# EAGLE library part PIC18F4XK22 (library microchip-pic18f4xk22)
The library has been designed by Richard Magdycz <https://www.facebook.com/groups/eaglecadsoftUK>
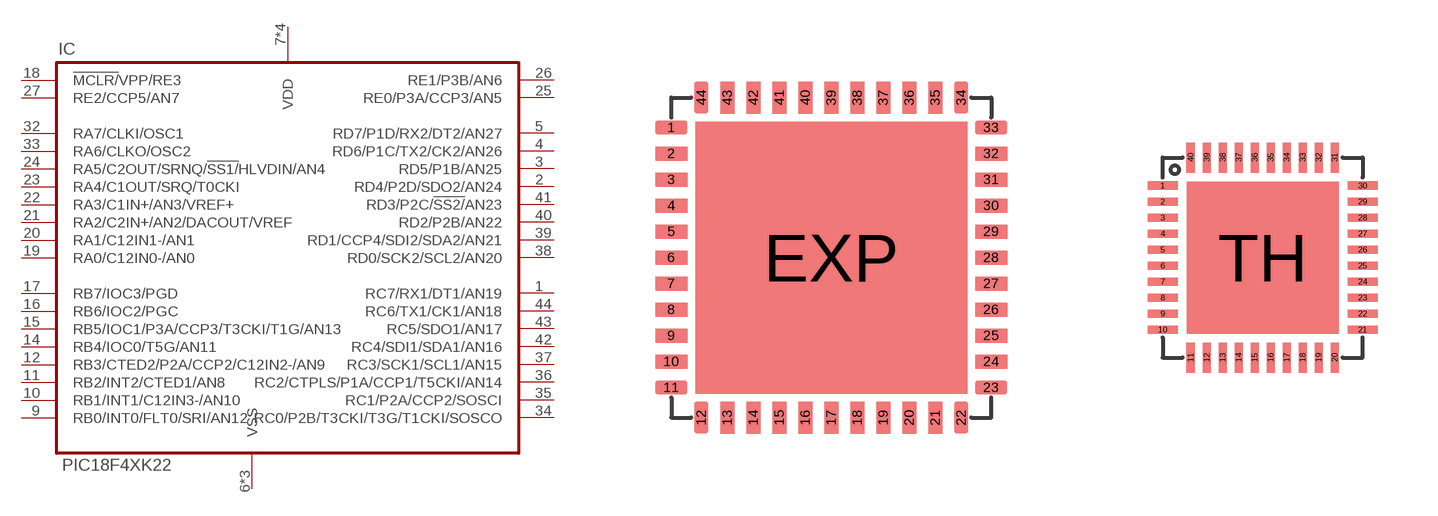
[diagram p0: symbol with the pads of QFN44ML8X8; footprints QFN44ML8X8, UQFN40ML5X5MM]

Designator prefix IC

## PIC18F4XK22ML  [QFN44ML8X8]
1  RC7/RX1/DT1/AN19
2  RD4/P2D/SDO2/AN24
3  RD5/P1B/AN25
4  RD6/P1C/TX2/CK2/AN26
5  RD7/P1D/RX2/DT2/AN27
6  VSS  pwr
7  VDD  pwr
8  VDD  pwr
9  RB0/INT0/FLT0/SRI/AN12
10  RB1/INT1/C12IN3-/AN10
11  RB2/INT2/CTED1/AN8
12  RB3/CTED2/P2A/CCP2/C12IN2-/AN9
14  RB4/IOC0/T5G/AN11
15  RB5/IOC1/P3A/CCP3/T3CKI/T1G/AN13
16  RB6/IOC2/PGC
17  RB7/IOC3/PGD
18  !MCLR/!VPP/RE3  in
19  RA0/C12IN0-/AN0
20  RA1/C12IN1-/AN1
21  RA2/C2IN+/AN2/DACOUT/VREF
22  RA3/C1IN+/AN3/VREF+
23  RA4/C1OUT/SRQ/T0CKI
24  RA5/C2OUT/SRNQ/!SS1/!HLVDIN/AN4
25  RE0/P3A/CCP3/AN5
26  RE1/P3B/AN6
27  RE2/CCP5/AN7
28  VDD  pwr
29  VDD  pwr
30  VSS  pwr
31  VSS  pwr
32  RA7/CLKI/OSC1
33  RA6/CLKO/OSC2
34  RC0/P2B/T3CKI/T3G/T1CKI/SOSCO
35  RC1/P2A/CCP2/SOSCI
36  RC2/CTPLS/P1A/CCP1/T5CKI/AN14
37  RC3/SCK1/SCL1/AN15
38  RD0/SCK2/SCL2/AN20
39  RD1/CCP4/SDI2/SDA2/AN21
40  RD2/P2B/AN22
41  RD3/P2C/!SS2/!AN23
42  RC4/SDI1/SDA1/AN16
43  RC5/SDO1/AN17
44  RC6/TX1/CK1/AN18

## PIC18F4XK22MV  [UQFN40ML5X5MM]
1  RC7/RX1/DT1/AN19
2  RD4/P2D/SDO2/AN24
3  RD5/P1B/AN25
4  RD6/P1C/TX2/CK2/AN26
5  RD7/P1D/RX2/DT2/AN27
6  VSS  pwr
7  VDD  pwr
8  RB0/INT0/FLT0/SRI/AN12
9  RB1/INT1/C12IN3-/AN10
10  RB2/INT2/CTED1/AN8
11  RB3/CTED2/P2A/CCP2/C12IN2-/AN9
12  RB4/IOC0/T5G/AN11
13  RB5/IOC1/P3A/CCP3/T3CKI/T1G/AN13
14  RB6/IOC2/PGC
15  RB7/IOC3/PGD
16  !MCLR/!VPP/RE3  in
17  RA0/C12IN0-/AN0
18  RA1/C12IN1-/AN1
19  RA2/C2IN+/AN2/DACOUT/VREF
20  RA3/C1IN+/AN3/VREF+
21  RA4/C1OUT/SRQ/T0CKI
22  RA5/C2OUT/SRNQ/!SS1/!HLVDIN/AN4
23  RE0/P3A/CCP3/AN5
24  RE1/P3B/AN6
25  RE2/CCP5/AN7
26  VDD  pwr
27  VSS  pwr
28  RA7/CLKI/OSC1
29  RA6/CLKO/OSC2
30  RC0/P2B/T3CKI/T3G/T1CKI/SOSCO
31  RC1/P2A/CCP2/SOSCI
32  RC2/CTPLS/P1A/CCP1/T5CKI/AN14
33  RC3/SCK1/SCL1/AN15
34  RD0/SCK2/SCL2/AN20
35  RD1/CCP4/SDI2/SDA2/AN21
36  RD2/P2B/AN22
37  RD3/P2C/!SS2/!AN23
38  RC4/SDI1/SDA1/AN16
39  RC5/SDO1/AN17
40  RC6/TX1/CK1/AN18

## PIC18F4XK22P  [DIL40]
1  !MCLR/!VPP/RE3  in
2  RA0/C12IN0-/AN0
3  RA1/C12IN1-/AN1
4  RA2/C2IN+/AN2/DACOUT/VREF
5  RA3/C1IN+/AN3/VREF+
6  RA4/C1OUT/SRQ/T0CKI
7  RA5/C2OUT/SRNQ/!SS1/!HLVDIN/AN4
8  RE0/P3A/CCP3/AN5
9  RE1/P3B/AN6
10  RE2/CCP5/AN7
11  VDD  pwr
12  VSS  pwr
13  RA7/CLKI/OSC1
14  RA6/CLKO/OSC2
15  RC0/P2B/T3CKI/T3G/T1CKI/SOSCO
16  RC1/P2A/CCP2/SOSCI
17  RC2/CTPLS/P1A/CCP1/T5CKI/AN14
18  RC3/SCK1/SCL1/AN15
19  RD0/SCK2/SCL2/AN20
20  RD1/CCP4/SDI2/SDA2/AN21
21  RD2/P2B/AN22
22  RD3/P2C/!SS2/!AN23
23  RC4/SDI1/SDA1/AN16
24  RC5/SDO1/AN17
25  RC6/TX1/CK1/AN18
26  RC7/RX1/DT1/AN19
27  RD4/P2D/SDO2/AN24
28  RD5/P1B/AN25
29  RD6/P1C/TX2/CK2/AN26
30  RD7/P1D/RX2/DT2/AN27
31  VSS  pwr
32  VDD  pwr
33  RB0/INT0/FLT0/SRI/AN12
34  RB1/INT1/C12IN3-/AN10
35  RB2/INT2/CTED1/AN8
36  RB3/CTED2/P2A/CCP2/C12IN2-/AN9
37  RB4/IOC0/T5G/AN11
38  RB5/IOC1/P3A/CCP3/T3CKI/T1G/AN13
39  RB6/IOC2/PGC
40  RB7/IOC3/PGD

## PIC18F4XK22PT  [TQFP44]
1  RC7/RX1/DT1/AN19
2  RD4/P2D/SDO2/AN24
3  RD5/P1B/AN25
4  RD6/P1C/TX2/CK2/AN26
5  RD7/P1D/RX2/DT2/AN27
6  VSS  pwr
7  VDD  pwr
8  RB0/INT0/FLT0/SRI/AN12
9  RB1/INT1/C12IN3-/AN10
10  RB2/INT2/CTED1/AN8
11  RB3/CTED2/P2A/CCP2/C12IN2-/AN9
14  RB4/IOC0/T5G/AN11
15  RB5/IOC1/P3A/CCP3/T3CKI/T1G/AN13
16  RB6/IOC2/PGC
17  RB7/IOC3/PGD
18  !MCLR/!VPP/RE3  in
19  RA0/C12IN0-/AN0
20  RA1/C12IN1-/AN1
21  RA2/C2IN+/AN2/DACOUT/VREF
22  RA3/C1IN+/AN3/VREF+
23  RA4/C1OUT/SRQ/T0CKI
24  RA5/C2OUT/SRNQ/!SS1/!HLVDIN/AN4
25  RE0/P3A/CCP3/AN5
26  RE1/P3B/AN6
27  RE2/CCP5/AN7
28  VDD  pwr
29  VSS  pwr
30  RA7/CLKI/OSC1
31  RA6/CLKO/OSC2
32  RC0/P2B/T3CKI/T3G/T1CKI/SOSCO
35  RC1/P2A/CCP2/SOSCI
36  RC2/CTPLS/P1A/CCP1/T5CKI/AN14
37  RC3/SCK1/SCL1/AN15
38  RD0/SCK2/SCL2/AN20
39  RD1/CCP4/SDI2/SDA2/AN21
40  RD2/P2B/AN22
41  RD3/P2C/!SS2/!AN23
42  RC4/SDI1/SDA1/AN16
43  RC5/SDO1/AN17
44  RC6/TX1/CK1/AN18

## Footprint QFN44ML8X8 (pad centres in mm)
44-Lead Plastic Quad Flat No Lead Package (ML) 8x8 mm Body (QFN) Source: http://ww1.microchip.com/downloads/en/devicedoc/39632c.pdf
smd 0.8 x 0.35: 1 -4,3.25; 2 -4,2.6; 3 -4,1.95; 4 -4,1.3; 5 -4,0.65; 6 -4,0; 7 -4,-0.65; 8 -4,-1.3; 9 -4,-1.95; 10 -4,-2.6; 11 -4,-3.25; 23 4,-3.25; 24 4,-2.6; 25 4,-1.95; 26 4,-1.3; 27 4,-0.65; 28 4,0; 29 4,0.65; 30 4,1.3; 31 4,1.95; 32 4,2.6; 33 4,3.25
smd 0.35 x 0.8: 12 -3.25,-4; 13 -2.6,-4; 14 -1.95,-4; 15 -1.3,-4; 16 -0.65,-4; 17 0,-4; 18 0.65,-4; 19 1.3,-4; 20 1.95,-4; 21 2.6,-4; 22 3.25,-4; 34 3.25,4; 35 2.6,4; 36 1.95,4; 37 1.3,4; 38 0.65,4; 39 0,4; 40 -0.65,4; 41 -1.3,4; 42 -1.95,4; 43 -2.6,4; 44 -3.25,4
smd 6.8 x 6.8: EXP 0,0

## Footprint UQFN40ML5X5MM (pad centres in mm)
40-Lead Platic Ultra Thin Quad Flat, No Lead Package (MV) - 5x5mm Body [UQFN] Source: www.microchip.com PIC16F1516.pdf
smd 0.75 x 0.2: 1 -2.5,1.8; 2 -2.5,1.4; 3 -2.5,1; 4 -2.5,0.6; 5 -2.5,0.2; 6 -2.5,-0.2; 7 -2.5,-0.6; 8 -2.5,-1; 9 -2.5,-1.4; 10 -2.5,-1.8; 21 2.5,-1.8; 22 2.5,-1.4; 23 2.5,-1; 24 2.5,-0.6; 25 2.5,-0.2; 26 2.5,0.2; 27 2.5,0.6; 28 2.5,1; 29 2.5,1.4; 30 2.5,1.8
smd 0.2 x 0.75: 11 -1.8,-2.5; 12 -1.4,-2.5; 13 -1,-2.5; 14 -0.6,-2.5; 15 -0.2,-2.5; 16 0.2,-2.5; 17 0.6,-2.5; 18 1,-2.5; 19 1.4,-2.5; 20 1.8,-2.5; 31 1.8,2.5; 32 1.4,2.5; 33 1,2.5; 34 0.6,2.5; 35 0.2,2.5; 36 -0.2,2.5; 37 -0.6,2.5; 38 -1,2.5; 39 -1.4,2.5; 40 -1.8,2.5
smd 3.8 x 3.8: TH 0,0

## Footprint DIL40 (pad centres in mm)
Dual In Line Package
drill 0.813 long: 1 -24.13,-7.62; 2 -21.59,-7.62; 3 -19.05,-7.62; 4 -16.51,-7.62; 5 -13.97,-7.62; 6 -11.43,-7.62; 7 -8.89,-7.62; 8 -6.35,-7.62; 9 -3.81,-7.62; 10 -1.27,-7.62; 11 1.27,-7.62; 12 3.81,-7.62; 13 6.35,-7.62; 14 8.89,-7.62; 15 11.43,-7.62; 16 13.97,-7.62; 17 16.51,-7.62; 18 19.05,-7.62; 19 21.59,-7.62; 20 24.13,-7.62; 21 24.13,7.62; 22 21.59,7.62; 23 19.05,7.62; 24 16.51,7.62; 25 13.97,7.62; 26 11.43,7.62; 27 8.89,7.62; 28 6.35,7.62; 29 3.81,7.62; 30 1.27,7.62; 31 -1.27,7.62; 32 -3.81,7.62; 33 -6.35,7.62; 34 -8.89,7.62; 35 -11.43,7.62; 36 -13.97,7.62; 37 -16.51,7.62; 38 -19.05,7.62; 39 -21.59,7.62; 40 -24.13,7.62

## Footprint TQFP44 (pad centres in mm)
Thin Quad Flat Pack package type TQ
smd 1.5 x 0.5: 1 -5.8,4; 2 -5.8,3.2; 3 -5.8,2.4; 4 -5.8,1.6; 5 -5.8,0.8; 6 -5.8,0; 7 -5.8,-0.8; 8 -5.8,-1.6; 9 -5.8,-2.4; 10 -5.8,-3.2; 11 -5.8,-4; 23 5.8,-4; 24 5.8,-3.2; 25 5.8,-2.4; 26 5.8,-1.6; 27 5.8,-0.8; 28 5.8,0; 29 5.8,0.8; 30 5.8,1.6; 31 5.8,2.4; 32 5.8,3.2; 33 5.8,4
smd 0.5 x 1.5: 12 -4,-5.8; 13 -3.2,-5.8; 14 -2.4,-5.8; 15 -1.6,-5.8; 16 -0.8,-5.8; 17 0,-5.8; 18 0.8,-5.8; 19 1.6,-5.8; 20 2.4,-5.8; 21 3.2,-5.8; 22 4,-5.8; 34 4,5.8; 35 3.2,5.8; 36 2.4,5.8; 37 1.6,5.8; 38 0.8,5.8; 39 0,5.8; 40 -0.8,5.8; 41 -1.6,5.8; 42 -2.4,5.8; 43 -3.2,5.8; 44 -4,5.8